# Altium integrated library TI Amplifiers and Linear Operational Amplifier High Speed.IntLib: 1100 symbols (part 42 of 44)
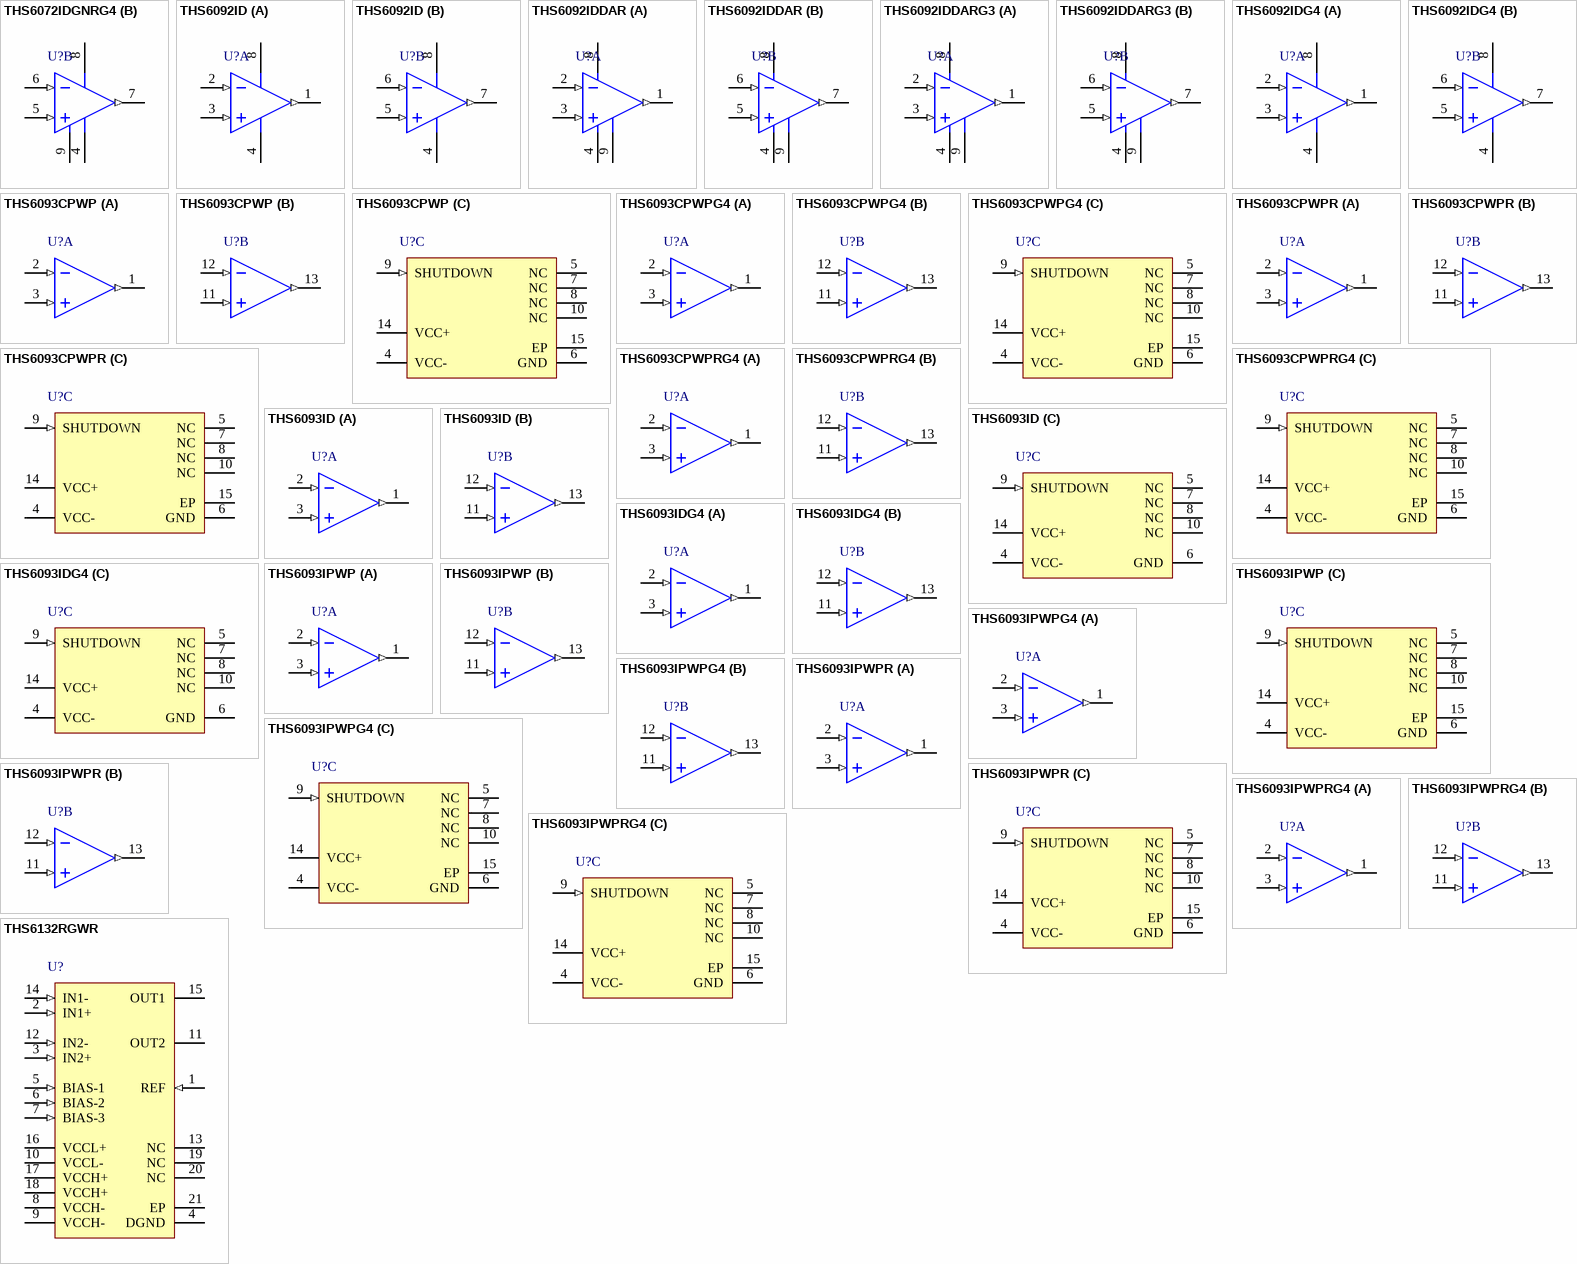
[diagram p92: symbols THS6072IDGNRG4 to THS6132RGWR]

## THS6092IDDARG3
designator U?
275 mA, + 12 V ADSL CPE Line Driver, 5 to 14 V, -40 to 85 degC, 8-pin SOP (DDA8), Green (RoHS & no Sb/Br); Manufacturer: Texas Instruments; PartNumber: THS6092IDDARG3; Acl, min stable gain(V/V): 1; BW @ Acl(MHz): 100; Iib(Max)(nA): 12000; Io(Typ)(mA): 275; Iq per channel(Max)(mA): 10.5; Number of Channels: 2; Slew Rate(Typ)(V/us): 600; Sub Family: High Output Current Amplifier (>=50mA), High Speed Amplifier (>=50MHz); THD (Fc is 1 MHz)(Typ)(dB): -72; Vio(Max)(mV): 20; Vn at Flatband(Typ)(nV/rtHz): 2.1; Vs(Max)(V): 14; Vs(Min)(V): 5; DatasheetVersion: SLOS345C; PackageVersion: 4202561/F, 12/2011; PackageReference: DDA8-3025X2335TP; PackageDescription: 8-Pin PowerPAD(TM) Plastic Small Outline, Body 4.9 x 3.9 mm, Pitch 1.27 mm; Supplier 1: Digi-Key; Supplier Part Number 1: THS6092IDDARG3-ND; Supplier 2: Mouser; Supplier Part Number 2: 595-THS6092IDDARG3; Eco-Plan: Green (RoHS & no Sb/Br); Mounting Technology: Surface Mount; Code_JEDEC: MS-012; ComponentLink1Description: Manufacturer URL; ComponentLink1URL: http://www.ti.com/; ComponentLink2Description: Datasheet; ComponentLink2URL: http://www.ti.com/general/docs/lit/getliterature.tsp?genericPartNumber=THS6092&fileType=pdf; ComponentLink3Description: Package Specification; ComponentLink3URL: http://www.ti.com/litv/pdf/mpds092e
footprint TI-DDA8-3025X2335TP_N (SOP, 8-Leads, Body 4.9x3.9mm, Pitch 1.27mm, Thermal Pad 3.025x2.335mm, IPC Medium Density)
footprint TI-DDA8-3025X2335TP_L (SOP, 8-Leads, Body 4.9x3.9mm, Pitch 1.27mm, Thermal Pad 3.025x2.335mm, IPC High Density)
footprint TI-DDA8-3025X2335TP_M (SOP, 8-Leads, Body 4.9x3.9mm, Pitch 1.27mm, Thermal Pad 3.025x2.335mm, IPC Low Density)
pins on every part: 4 VCC- (power), 8 VCC+ (power), 9 EP
part A pins: 1 OUT D1 (out), 2 IN D1- (in), 3 IN D1+ (in)
part B pins: 5 IN D2+ (in), 6 IN D2- (in), 7 OUT D2 (out)

## THS6092IDG4
designator U?
275 mA, + 12 V ADSL CPE Line Driver, 5 to 14 V, -40 to 85 degC, 8-pin SOIC (D8), Green (RoHS & no Sb/Br); Manufacturer: Texas Instruments; PartNumber: THS6092IDG4; Acl, min stable gain(V/V): 1; BW @ Acl(MHz): 100; Iib(Max)(nA): 12000; Io(Typ)(mA): 275; Iq per channel(Max)(mA): 10.5; Number of Channels: 2; Slew Rate(Typ)(V/us): 600; Sub Family: High Output Current Amplifier (>=50mA), High Speed Amplifier (>=50MHz); THD (Fc is 1 MHz)(Typ)(dB): -72; Vio(Max)(mV): 20; Vn at Flatband(Typ)(nV/rtHz): 2.1; Vs(Max)(V): 14; Vs(Min)(V): 5; DatasheetVersion: SLOS345C; PackageVersion: 4040047-3/M, 06/2011; PackageReference: D8; PackageDescription: 8-Pin Plastic Small Outline, Body 4.9 x 3.9 mm, Pitch 1.27 mm; Supplier 1: Digi-Key; Supplier Part Number 1: THS6092IDG4-ND; Supplier 2: Mouser; Supplier Part Number 2: 595-THS6092IDG4; Eco-Plan: Green (RoHS & no Sb/Br); Mounting Technology: Surface Mount; Code_JEDEC: MS-012; ComponentLink1Description: Manufacturer URL; ComponentLink1URL: http://www.ti.com/; ComponentLink2Description: Datasheet; ComponentLink2URL: http://www.ti.com/general/docs/lit/getliterature.tsp?genericPartNumber=THS6092&fileType=pdf; ComponentLink3Description: Package Specification; ComponentLink3URL: http://www.ti.com/litv/pdf/msoi002j
footprint TI-D8_N (SOIC, 8-Leads, Body 4.9x3.9mm, Pitch 1.27mm, IPC Medium Density)
footprint TI-D8_L (SOIC, 8-Leads, Body 4.9x3.9mm, Pitch 1.27mm, IPC High Density)
footprint TI-D8_M (SOIC, 8-Leads, Body 4.9x3.9mm, Pitch 1.27mm, IPC Low Density)
pins on every part: 4 VCC- (power), 8 VCC+ (power)
part A pins: 1 OUT D1 (out), 2 IN D1- (in), 3 IN D1+ (in)
part B pins: 5 IN D2+ (in), 6 IN D2- (in), 7 OUT D2 (out)

## THS6093CPWP
designator U?
275 mA, + 12 V ADSL CPE Line Driver with Shutdown, 5 to 14 V, 0 to 70 degC, 14-pin SOP (PWP14), Green (RoHS & no Sb/Br); Manufacturer: Texas Instruments; PartNumber: THS6093CPWP; Acl, min stable gain(V/V): 1; BW @ Acl(MHz): 100; Iib(Max)(nA): 12000; Io(Typ)(mA): 275; Iq per channel(Max)(mA): 10.5; Number of Channels: 2; Slew Rate(Typ)(V/us): 800; Sub Family: High Output Current Amplifier (>=50mA), High Speed Amplifier (>=50MHz); THD (Fc is 1 MHz)(Typ)(dB): -77; Vio(Max)(mV): 20; Vn at Flatband(Typ)(nV/rtHz): 2.1; Vs(Max)(V): 14; Vs(Min)(V): 5; DatasheetVersion: SLOS345C; PackageVersion: 4073225-2/I, 05/2011; PackageReference: PWP14-1830X2055TP; PackageDescription: 14-Pin Plastic Small Outline, Body 4.4 x 5 mm, Pitch 0.65 mm; Supplier 1: Digi-Key; Supplier Part Number 1: THS6093CPWP-ND; Supplier 2: Mouser; Supplier Part Number 2: 595-THS6093CPWP; Eco-Plan: Green (RoHS & no Sb/Br); Mounting Technology: Surface Mount; Code_JEDEC: MO-153; ComponentLink1Description: Manufacturer URL; ComponentLink1URL: http://www.ti.com/; ComponentLink2Description: Datasheet; ComponentLink2URL: http://www.ti.com/general/docs/lit/getliterature.tsp?genericPartNumber=THS6093&fileType=pdf; ComponentLink3Description: Package Specification; ComponentLink3URL: http://www.ti.com/litv/pdf/mpds373
footprint TI-PWP14-1830X2055TP_N (SOP, 14-Leads, Body 5x4.4mm, Pitch 0.65mm, Thermal Pad 1.830x2.055mm, IPC Medium Density)
footprint TI-PWP14-1830X2055TP_L (SOP, 14-Leads, Body 5x4.4mm, Pitch 0.65mm, Thermal Pad 1.830x2.055mm, IPC High Density)
footprint TI-PWP14-1830X2055TP_M (SOP, 14-Leads, Body 5x4.4mm, Pitch 0.65mm, Thermal Pad 1.830x2.055mm, IPC Low Density)
part A pins: 1 OUT D1 (out), 2 IN D1- (in), 3 IN D1+ (in)
part B pins: 11 IN D2+ (in), 12 IN D2- (in), 13 OUT D2 (out)
part C pins: 4 VCC- (power), 5 NC, 6 GND (power), 7 NC, 8 NC, 9 SHUTDOWN (in), 10 NC, 14 VCC+ (power), 15 EP

## THS6093CPWPG4
designator U?
275 mA, + 12 V ADSL CPE Line Driver with Shutdown, 5 to 14 V, 0 to 70 degC, 14-pin SOP (PWP14), Green (RoHS & no Sb/Br); Manufacturer: Texas Instruments; PartNumber: THS6093CPWPG4; Acl, min stable gain(V/V): 1; BW @ Acl(MHz): 100; Iib(Max)(nA): 12000; Io(Typ)(mA): 275; Iq per channel(Max)(mA): 10.5; Number of Channels: 2; Slew Rate(Typ)(V/us): 800; Sub Family: High Output Current Amplifier (>=50mA), High Speed Amplifier (>=50MHz); THD (Fc is 1 MHz)(Typ)(dB): -77; Vio(Max)(mV): 20; Vn at Flatband(Typ)(nV/rtHz): 2.1; Vs(Max)(V): 14; Vs(Min)(V): 5; DatasheetVersion: SLOS345C; PackageVersion: 4073225-2/I, 05/2011; PackageReference: PWP14-1830X2055TP; PackageDescription: 14-Pin Plastic Small Outline, Body 4.4 x 5 mm, Pitch 0.65 mm; Supplier 1: Digi-Key; Supplier Part Number 1: THS6093CPWPG4-ND; Supplier 2: Mouser; Supplier Part Number 2: 595-THS6093CPWPG4; Eco-Plan: Green (RoHS & no Sb/Br); Mounting Technology: Surface Mount; Code_JEDEC: MO-153; ComponentLink1Description: Manufacturer URL; ComponentLink1URL: http://www.ti.com/; ComponentLink2Description: Datasheet; ComponentLink2URL: http://www.ti.com/general/docs/lit/getliterature.tsp?genericPartNumber=THS6093&fileType=pdf; ComponentLink3Description: Package Specification; ComponentLink3URL: http://www.ti.com/litv/pdf/mpds373
footprint TI-PWP14-1830X2055TP_N (SOP, 14-Leads, Body 5x4.4mm, Pitch 0.65mm, Thermal Pad 1.830x2.055mm, IPC Medium Density)
footprint TI-PWP14-1830X2055TP_L (SOP, 14-Leads, Body 5x4.4mm, Pitch 0.65mm, Thermal Pad 1.830x2.055mm, IPC High Density)
footprint TI-PWP14-1830X2055TP_M (SOP, 14-Leads, Body 5x4.4mm, Pitch 0.65mm, Thermal Pad 1.830x2.055mm, IPC Low Density)
part A pins: 1 OUT D1 (out), 2 IN D1- (in), 3 IN D1+ (in)
part B pins: 11 IN D2+ (in), 12 IN D2- (in), 13 OUT D2 (out)
part C pins: 4 VCC- (power), 5 NC, 6 GND (power), 7 NC, 8 NC, 9 SHUTDOWN (in), 10 NC, 14 VCC+ (power), 15 EP

## THS6093CPWPR
designator U?
275 mA, + 12 V ADSL CPE Line Driver with Shutdown, 5 to 14 V, 0 to 70 degC, 14-pin SOP (PWP14), Green (RoHS & no Sb/Br); Manufacturer: Texas Instruments; PartNumber: THS6093CPWPR; Acl, min stable gain(V/V): 1; BW @ Acl(MHz): 100; Iib(Max)(nA): 12000; Io(Typ)(mA): 275; Iq per channel(Max)(mA): 10.5; Number of Channels: 2; Slew Rate(Typ)(V/us): 800; Sub Family: High Output Current Amplifier (>=50mA), High Speed Amplifier (>=50MHz); THD (Fc is 1 MHz)(Typ)(dB): -77; Vio(Max)(mV): 20; Vn at Flatband(Typ)(nV/rtHz): 2.1; Vs(Max)(V): 14; Vs(Min)(V): 5; DatasheetVersion: SLOS345C; PackageVersion: 4073225-2/I, 05/2011; PackageReference: PWP14-1830X2055TP; PackageDescription: 14-Pin Plastic Small Outline, Body 4.4 x 5 mm, Pitch 0.65 mm; Supplier 1: Digi-Key; Supplier Part Number 1: THS6093CPWPR-ND; Supplier 2: Mouser; Supplier Part Number 2: 595-THS6093CPWPR; Eco-Plan: Green (RoHS & no Sb/Br); Mounting Technology: Surface Mount; Code_JEDEC: MO-153; ComponentLink1Description: Manufacturer URL; ComponentLink1URL: http://www.ti.com/; ComponentLink2Description: Datasheet; ComponentLink2URL: http://www.ti.com/general/docs/lit/getliterature.tsp?genericPartNumber=THS6093&fileType=pdf; ComponentLink3Description: Package Specification; ComponentLink3URL: http://www.ti.com/litv/pdf/mpds373
footprint TI-PWP14-1830X2055TP_N (SOP, 14-Leads, Body 5x4.4mm, Pitch 0.65mm, Thermal Pad 1.830x2.055mm, IPC Medium Density)
footprint TI-PWP14-1830X2055TP_L (SOP, 14-Leads, Body 5x4.4mm, Pitch 0.65mm, Thermal Pad 1.830x2.055mm, IPC High Density)
footprint TI-PWP14-1830X2055TP_M (SOP, 14-Leads, Body 5x4.4mm, Pitch 0.65mm, Thermal Pad 1.830x2.055mm, IPC Low Density)
part A pins: 1 OUT D1 (out), 2 IN D1- (in), 3 IN D1+ (in)
part B pins: 11 IN D2+ (in), 12 IN D2- (in), 13 OUT D2 (out)
part C pins: 4 VCC- (power), 5 NC, 6 GND (power), 7 NC, 8 NC, 9 SHUTDOWN (in), 10 NC, 14 VCC+ (power), 15 EP

## THS6093CPWPRG4
designator U?
275 mA, + 12 V ADSL CPE Line Driver with Shutdown, 5 to 14 V, 0 to 70 degC, 14-pin SOP (PWP14), Green (RoHS & no Sb/Br); Manufacturer: Texas Instruments; PartNumber: THS6093CPWPRG4; Acl, min stable gain(V/V): 1; BW @ Acl(MHz): 100; Iib(Max)(nA): 12000; Io(Typ)(mA): 275; Iq per channel(Max)(mA): 10.5; Number of Channels: 2; Slew Rate(Typ)(V/us): 800; Sub Family: High Output Current Amplifier (>=50mA), High Speed Amplifier (>=50MHz); THD (Fc is 1 MHz)(Typ)(dB): -77; Vio(Max)(mV): 20; Vn at Flatband(Typ)(nV/rtHz): 2.1; Vs(Max)(V): 14; Vs(Min)(V): 5; DatasheetVersion: SLOS345C; PackageVersion: 4073225-2/I, 05/2011; PackageReference: PWP14-1830X2055TP; PackageDescription: 14-Pin Plastic Small Outline, Body 4.4 x 5 mm, Pitch 0.65 mm; Supplier 1: Digi-Key; Supplier Part Number 1: THS6093CPWPRG4-ND; Supplier 2: Mouser; Supplier Part Number 2: 595-THS6093CPWPRG4; Eco-Plan: Green (RoHS & no Sb/Br); Mounting Technology: Surface Mount; Code_JEDEC: MO-153; ComponentLink1Description: Manufacturer URL; ComponentLink1URL: http://www.ti.com/; ComponentLink2Description: Datasheet; ComponentLink2URL: http://www.ti.com/general/docs/lit/getliterature.tsp?genericPartNumber=THS6093&fileType=pdf; ComponentLink3Description: Package Specification; ComponentLink3URL: http://www.ti.com/litv/pdf/mpds373
footprint TI-PWP14-1830X2055TP_N (SOP, 14-Leads, Body 5x4.4mm, Pitch 0.65mm, Thermal Pad 1.830x2.055mm, IPC Medium Density)
footprint TI-PWP14-1830X2055TP_L (SOP, 14-Leads, Body 5x4.4mm, Pitch 0.65mm, Thermal Pad 1.830x2.055mm, IPC High Density)
footprint TI-PWP14-1830X2055TP_M (SOP, 14-Leads, Body 5x4.4mm, Pitch 0.65mm, Thermal Pad 1.830x2.055mm, IPC Low Density)
part A pins: 1 OUT D1 (out), 2 IN D1- (in), 3 IN D1+ (in)
part B pins: 11 IN D2+ (in), 12 IN D2- (in), 13 OUT D2 (out)
part C pins: 4 VCC- (power), 5 NC, 6 GND (power), 7 NC, 8 NC, 9 SHUTDOWN (in), 10 NC, 14 VCC+ (power), 15 EP

## THS6093ID
designator U?
275 mA, + 12 V ADSL CPE Line Driver with Shutdown, 5 to 14 V, -40 to 85 degC, 14-pin SOIC (D14), Green (RoHS & no Sb/Br); Manufacturer: Texas Instruments; PartNumber: THS6093ID; Acl, min stable gain(V/V): 1; BW @ Acl(MHz): 100; Iib(Max)(nA): 12000; Io(Typ)(mA): 275; Iq per channel(Max)(mA): 10.5; Number of Channels: 2; Slew Rate(Typ)(V/us): 800; Sub Family: High Output Current Amplifier (>=50mA), High Speed Amplifier (>=50MHz); THD (Fc is 1 MHz)(Typ)(dB): -77; Vio(Max)(mV): 20; Vn at Flatband(Typ)(nV/rtHz): 2.1; Vs(Max)(V): 14; Vs(Min)(V): 5; DatasheetVersion: SLOS345C; PackageVersion: 4040047-5/M, 06/2011; PackageReference: D14; PackageDescription: 14-Pin Plastic Small Outline, Body 8.65 x 3.9 mm, Pitch 1.27 mm; Supplier 1: Digi-Key; Supplier Part Number 1: 296-11986-5-ND; Supplier 2: Farnell; Supplier Part Number 2: 1755417; Supplier 3: Mouser; Supplier Part Number 3: 595-THS6093ID; Eco-Plan: Green (RoHS & no Sb/Br); Mounting Technology: Surface Mount; Code_JEDEC: MS-012; ComponentLink1Description: Manufacturer URL; ComponentLink1URL: http://www.ti.com/; ComponentLink2Description: Datasheet; ComponentLink2URL: http://www.ti.com/general/docs/lit/getliterature.tsp?genericPartNumber=THS6093&fileType=pdf; ComponentLink3Description: Package Specification; ComponentLink3URL: http://www.ti.com/lit/ml/mpds177g/mpds177g.pdf
footprint TI-D14_N (SOIC, 14-Leads, Body 8.65x3.9mm, Pitch 1.27mm, IPC Medium Density)
footprint TI-D14_L (SOIC, 14-Leads, Body 8.65x3.9mm, Pitch 1.27mm, IPC High Density)
footprint TI-D14_M (SOIC, 14-Leads, Body 8.65x3.9mm, Pitch 1.27mm, IPC Low Density)
part A pins: 1 OUT D1 (out), 2 IN D1- (in), 3 IN D1+ (in)
part B pins: 11 IN D2+ (in), 12 IN D2- (in), 13 OUT D2 (out)
part C pins: 4 VCC- (power), 5 NC, 6 GND (power), 7 NC, 8 NC, 9 SHUTDOWN (in), 10 NC, 14 VCC+ (power)

## THS6093IDG4
designator U?
275 mA, + 12 V ADSL CPE Line Driver with Shutdown, 5 to 14 V, -40 to 85 degC, 14-pin SOIC (D14), Green (RoHS & no Sb/Br); Manufacturer: Texas Instruments; PartNumber: THS6093IDG4; Acl, min stable gain(V/V): 1; BW @ Acl(MHz): 100; Iib(Max)(nA): 12000; Io(Typ)(mA): 275; Iq per channel(Max)(mA): 10.5; Number of Channels: 2; Slew Rate(Typ)(V/us): 800; Sub Family: High Output Current Amplifier (>=50mA), High Speed Amplifier (>=50MHz); THD (Fc is 1 MHz)(Typ)(dB): -77; Vio(Max)(mV): 20; Vn at Flatband(Typ)(nV/rtHz): 2.1; Vs(Max)(V): 14; Vs(Min)(V): 5; DatasheetVersion: SLOS345C; PackageVersion: 4040047-5/M, 06/2011; PackageReference: D14; PackageDescription: 14-Pin Plastic Small Outline, Body 8.65 x 3.9 mm, Pitch 1.27 mm; Supplier 1: Digi-Key; Supplier Part Number 1: THS6093IDG4-ND; Supplier 2: Mouser; Supplier Part Number 2: 595-THS6093IDG4; Eco-Plan: Green (RoHS & no Sb/Br); Mounting Technology: Surface Mount; Code_JEDEC: MS-012; ComponentLink1Description: Manufacturer URL; ComponentLink1URL: http://www.ti.com/; ComponentLink2Description: Datasheet; ComponentLink2URL: http://www.ti.com/general/docs/lit/getliterature.tsp?genericPartNumber=THS6093&fileType=pdf; ComponentLink3Description: Package Specification; ComponentLink3URL: http://www.ti.com/lit/ml/mpds177g/mpds177g.pdf
footprint TI-D14_N (SOIC, 14-Leads, Body 8.65x3.9mm, Pitch 1.27mm, IPC Medium Density)
footprint TI-D14_L (SOIC, 14-Leads, Body 8.65x3.9mm, Pitch 1.27mm, IPC High Density)
footprint TI-D14_M (SOIC, 14-Leads, Body 8.65x3.9mm, Pitch 1.27mm, IPC Low Density)
part A pins: 1 OUT D1 (out), 2 IN D1- (in), 3 IN D1+ (in)
part B pins: 11 IN D2+ (in), 12 IN D2- (in), 13 OUT D2 (out)
part C pins: 4 VCC- (power), 5 NC, 6 GND (power), 7 NC, 8 NC, 9 SHUTDOWN (in), 10 NC, 14 VCC+ (power)

## THS6093IPWP
designator U?
275 mA, + 12 V ADSL CPE Line Driver with Shutdown, 5 to 14 V, -40 to 85 degC, 14-pin SOP (PWP14), Green (RoHS & no Sb/Br); Manufacturer: Texas Instruments; PartNumber: THS6093IPWP; Acl, min stable gain(V/V): 1; BW @ Acl(MHz): 100; Iib(Max)(nA): 12000; Io(Typ)(mA): 275; Iq per channel(Max)(mA): 10.5; Number of Channels: 2; Slew Rate(Typ)(V/us): 800; Sub Family: High Output Current Amplifier (>=50mA), High Speed Amplifier (>=50MHz); THD (Fc is 1 MHz)(Typ)(dB): -77; Vio(Max)(mV): 20; Vn at Flatband(Typ)(nV/rtHz): 2.1; Vs(Max)(V): 14; Vs(Min)(V): 5; DatasheetVersion: SLOS345C; PackageVersion: 4073225-2/I, 05/2011; PackageReference: PWP14-1830X2055TP; PackageDescription: 14-Pin Plastic Small Outline, Body 4.4 x 5 mm, Pitch 0.65 mm; Supplier 1: Digi-Key; Supplier Part Number 1: 296-12320-5-ND; Supplier 2: Mouser; Supplier Part Number 2: 595-THS6093IPWP; Eco-Plan: Green (RoHS & no Sb/Br); Mounting Technology: Surface Mount; Code_JEDEC: MO-153; ComponentLink1Description: Manufacturer URL; ComponentLink1URL: http://www.ti.com/; ComponentLink2Description: Datasheet; ComponentLink2URL: http://www.ti.com/general/docs/lit/getliterature.tsp?genericPartNumber=THS6093&fileType=pdf; ComponentLink3Description: Package Specification; ComponentLink3URL: http://www.ti.com/litv/pdf/mpds373
footprint TI-PWP14-1830X2055TP_N (SOP, 14-Leads, Body 5x4.4mm, Pitch 0.65mm, Thermal Pad 1.830x2.055mm, IPC Medium Density)
footprint TI-PWP14-1830X2055TP_L (SOP, 14-Leads, Body 5x4.4mm, Pitch 0.65mm, Thermal Pad 1.830x2.055mm, IPC High Density)
footprint TI-PWP14-1830X2055TP_M (SOP, 14-Leads, Body 5x4.4mm, Pitch 0.65mm, Thermal Pad 1.830x2.055mm, IPC Low Density)
part A pins: 1 OUT D1 (out), 2 IN D1- (in), 3 IN D1+ (in)
part B pins: 11 IN D2+ (in), 12 IN D2- (in), 13 OUT D2 (out)
part C pins: 4 VCC- (power), 5 NC, 6 GND (power), 7 NC, 8 NC, 9 SHUTDOWN (in), 10 NC, 14 VCC+ (power), 15 EP

## THS6093IPWPG4
designator U?
275 mA, + 12 V ADSL CPE Line Driver with Shutdown, 5 to 14 V, -40 to 85 degC, 14-pin SOP (PWP14), Green (RoHS & no Sb/Br); Manufacturer: Texas Instruments; PartNumber: THS6093IPWPG4; Acl, min stable gain(V/V): 1; BW @ Acl(MHz): 100; Iib(Max)(nA): 12000; Io(Typ)(mA): 275; Iq per channel(Max)(mA): 10.5; Number of Channels: 2; Slew Rate(Typ)(V/us): 800; Sub Family: High Output Current Amplifier (>=50mA), High Speed Amplifier (>=50MHz); THD (Fc is 1 MHz)(Typ)(dB): -77; Vio(Max)(mV): 20; Vn at Flatband(Typ)(nV/rtHz): 2.1; Vs(Max)(V): 14; Vs(Min)(V): 5; DatasheetVersion: SLOS345C; PackageVersion: 4073225-2/I, 05/2011; PackageReference: PWP14-1830X2055TP; PackageDescription: 14-Pin Plastic Small Outline, Body 4.4 x 5 mm, Pitch 0.65 mm; Supplier 1: Digi-Key; Supplier Part Number 1: THS6093IPWPG4-ND; Supplier 2: Mouser; Supplier Part Number 2: 595-THS6093IPWPG4; Eco-Plan: Green (RoHS & no Sb/Br); Mounting Technology: Surface Mount; Code_JEDEC: MO-153; ComponentLink1Description: Manufacturer URL; ComponentLink1URL: http://www.ti.com/; ComponentLink2Description: Datasheet; ComponentLink2URL: http://www.ti.com/general/docs/lit/getliterature.tsp?genericPartNumber=THS6093&fileType=pdf; ComponentLink3Description: Package Specification; ComponentLink3URL: http://www.ti.com/litv/pdf/mpds373
footprint TI-PWP14-1830X2055TP_N (SOP, 14-Leads, Body 5x4.4mm, Pitch 0.65mm, Thermal Pad 1.830x2.055mm, IPC Medium Density)
footprint TI-PWP14-1830X2055TP_L (SOP, 14-Leads, Body 5x4.4mm, Pitch 0.65mm, Thermal Pad 1.830x2.055mm, IPC High Density)
footprint TI-PWP14-1830X2055TP_M (SOP, 14-Leads, Body 5x4.4mm, Pitch 0.65mm, Thermal Pad 1.830x2.055mm, IPC Low Density)
part A pins: 1 OUT D1 (out), 2 IN D1- (in), 3 IN D1+ (in)
part B pins: 11 IN D2+ (in), 12 IN D2- (in), 13 OUT D2 (out)
part C pins: 4 VCC- (power), 5 NC, 6 GND (power), 7 NC, 8 NC, 9 SHUTDOWN (in), 10 NC, 14 VCC+ (power), 15 EP

## THS6093IPWPR
designator U?
275 mA, + 12 V ADSL CPE Line Driver with Shutdown, 5 to 14 V, -40 to 85 degC, 14-pin SOP (PWP14), Green (RoHS & no Sb/Br); Manufacturer: Texas Instruments; PartNumber: THS6093IPWPR; Acl, min stable gain(V/V): 1; BW @ Acl(MHz): 100; Iib(Max)(nA): 12000; Io(Typ)(mA): 275; Iq per channel(Max)(mA): 10.5; Number of Channels: 2; Slew Rate(Typ)(V/us): 800; Sub Family: High Output Current Amplifier (>=50mA), High Speed Amplifier (>=50MHz); THD (Fc is 1 MHz)(Typ)(dB): -77; Vio(Max)(mV): 20; Vn at Flatband(Typ)(nV/rtHz): 2.1; Vs(Max)(V): 14; Vs(Min)(V): 5; DatasheetVersion: SLOS345C; PackageVersion: 4073225-2/I, 05/2011; PackageReference: PWP14-1830X2055TP; PackageDescription: 14-Pin Plastic Small Outline, Body 4.4 x 5 mm, Pitch 0.65 mm; Supplier 1: Digi-Key; Supplier Part Number 1: THS6093IPWPR-ND; Supplier 2: Mouser; Supplier Part Number 2: 595-THS6093IPWPR; Eco-Plan: Green (RoHS & no Sb/Br); Mounting Technology: Surface Mount; Code_JEDEC: MO-153; ComponentLink1Description: Manufacturer URL; ComponentLink1URL: http://www.ti.com/; ComponentLink2Description: Datasheet; ComponentLink2URL: http://www.ti.com/general/docs/lit/getliterature.tsp?genericPartNumber=THS6093&fileType=pdf; ComponentLink3Description: Package Specification; ComponentLink3URL: http://www.ti.com/litv/pdf/mpds373
footprint TI-PWP14-1830X2055TP_N (SOP, 14-Leads, Body 5x4.4mm, Pitch 0.65mm, Thermal Pad 1.830x2.055mm, IPC Medium Density)
footprint TI-PWP14-1830X2055TP_L (SOP, 14-Leads, Body 5x4.4mm, Pitch 0.65mm, Thermal Pad 1.830x2.055mm, IPC High Density)
footprint TI-PWP14-1830X2055TP_M (SOP, 14-Leads, Body 5x4.4mm, Pitch 0.65mm, Thermal Pad 1.830x2.055mm, IPC Low Density)
part A pins: 1 OUT D1 (out), 2 IN D1- (in), 3 IN D1+ (in)
part B pins: 11 IN D2+ (in), 12 IN D2- (in), 13 OUT D2 (out)
part C pins: 4 VCC- (power), 5 NC, 6 GND (power), 7 NC, 8 NC, 9 SHUTDOWN (in), 10 NC, 14 VCC+ (power), 15 EP

## THS6093IPWPRG4
designator U?
275 mA, + 12 V ADSL CPE Line Driver with Shutdown, 5 to 14 V, -40 to 85 degC, 14-pin SOP (PWP14), Green (RoHS & no Sb/Br); Manufacturer: Texas Instruments; PartNumber: THS6093IPWPRG4; Acl, min stable gain(V/V): 1; BW @ Acl(MHz): 100; Iib(Max)(nA): 12000; Io(Typ)(mA): 275; Iq per channel(Max)(mA): 10.5; Number of Channels: 2; Slew Rate(Typ)(V/us): 600; Sub Family: High Output Current Amplifier (>=50mA), High Speed Amplifier (>=50MHz); THD (Fc is 1 MHz)(Typ)(dB): -72; Vio(Max)(mV): 21; Vn at Flatband(Typ)(nV/rtHz): 2.1; Vs(Max)(V): 14; Vs(Min)(V): 5; DatasheetVersion: SLOS345C; PackageVersion: 4073225-2/I, 05/2011; PackageReference: PWP14-1830X2055TP; PackageDescription: 14-Pin Plastic Small Outline, Body 4.4 x 5 mm, Pitch 0.65 mm; Supplier 1: Digi-Key; Supplier Part Number 1: THS6093IPWPRG4-ND; Supplier 2: Mouser; Supplier Part Number 2: 595-THS6093IPWPRG4; Eco-Plan: Green (RoHS & no Sb/Br); Mounting Technology: Surface Mount; Code_JEDEC: MO-153; ComponentLink1Description: Manufacturer URL; ComponentLink1URL: http://www.ti.com/; ComponentLink2Description: Datasheet; ComponentLink2URL: http://www.ti.com/general/docs/lit/getliterature.tsp?genericPartNumber=THS6093&fileType=pdf; ComponentLink3Description: Package Specification; ComponentLink3URL: http://www.ti.com/litv/pdf/mpds373
footprint TI-PWP14-1830X2055TP_N (SOP, 14-Leads, Body 5x4.4mm, Pitch 0.65mm, Thermal Pad 1.830x2.055mm, IPC Medium Density)
footprint TI-PWP14-1830X2055TP_L (SOP, 14-Leads, Body 5x4.4mm, Pitch 0.65mm, Thermal Pad 1.830x2.055mm, IPC High Density)
footprint TI-PWP14-1830X2055TP_M (SOP, 14-Leads, Body 5x4.4mm, Pitch 0.65mm, Thermal Pad 1.830x2.055mm, IPC Low Density)
part A pins: 1 OUT D1 (out), 2 IN D1- (in), 3 IN D1+ (in)
part B pins: 11 IN D2+ (in), 12 IN D2- (in), 13 OUT D2 (out)
part C pins: 4 VCC- (power), 5 NC, 6 GND (power), 7 NC, 8 NC, 9 SHUTDOWN (in), 10 NC, 14 VCC+ (power), 15 EP

## THS6132RGWR
designator U?
High Efficiency Class-G ADSL Line Driver, 6.6 to 30 V, -40 to 85 degC, 20-pin QFN (RGW20), Green (RoHS & no Sb/Br); Manufacturer: Texas Instruments; PartNumber: THS6132RGWR; 2nd Harmonic(dBc): 84; 3rd Harmonic(dBc): 92; @ MHz: 1; BW @ Acl(MHz): 80; Iib(Max)(nA): 20000; Io(Typ)(mA): 500; Iq per channel(Max)(mA): 8.1; Number of Channels: 2; Slew Rate(Typ)(V/us): 300; Sub Family: High Output Current Amplifier (>=50mA), High Speed Amplifier (>=50MHz), High Supply Voltage Amplifier (>=30V); THD (Fc is 1 MHz)(Typ)(dB): -92; Vio(Max)(mV): 15; Vn at Flatband(Typ)(nV/rtHz): 3.5; Vs(Max)(V): 30; Vs(Min)(V): 6.6; DatasheetVersion: SLLS543A; PackageVersion: 4204100/C, 07/2011; PackageReference: RGW20-3150X3150TP; PackageDescription: 20-Pin Plastic Quad Flat No-Lead, 5 x 5 mm Body, 0.65 mm Pitch, 3.15 x 3.15 mm Exposed Pad; Supplier 1: Digi-Key; Supplier Part Number 1: THS6132RGWR-ND; Supplier 2: Mouser; Supplier Part Number 2: 595-THS6132RGWR; Acl, min stable gain(V/V): 1; Eco-Plan: Green (RoHS & no Sb/Br); Mounting Technology: Surface Mount; Code_JEDEC: MO-220; ComponentLink1Description: Manufacturer URL; ComponentLink1URL: http://www.ti.com/; ComponentLink2Description: Datasheet; ComponentLink2URL: http://www.ti.com/general/docs/lit/getliterature.tsp?genericPartNumber=THS6132&fileType=pdf; ComponentLink3Description: Package Specification; ComponentLink3URL: http://www.ti.com/litv/pdf/mpqf122b
footprint TI-RGW20-3150X3150TP_V (QFN, 20-Leads, Body 5x5mm, Pitch 0.65mm, Thermal Pad 3.15x3.15mm)
pins: 1 REF (in), 2 IN1+ (in), 3 IN2+ (in), 4 DGND (power), 5 BIAS-1 (in), 6 BIAS-2 (in), 7 BIAS-3 (in), 8 VCCH- (power), 9 VCCH- (power), 10 VCCL- (power), 11 OUT2 (hiz), 12 IN2- (in), 13 NC, 14 IN1- (in), 15 OUT1 (hiz), 16 VCCL+ (power), 17 VCCH+ (power), 18 VCCH+ (power), 19 NC, 20 NC, 21 EP (power)

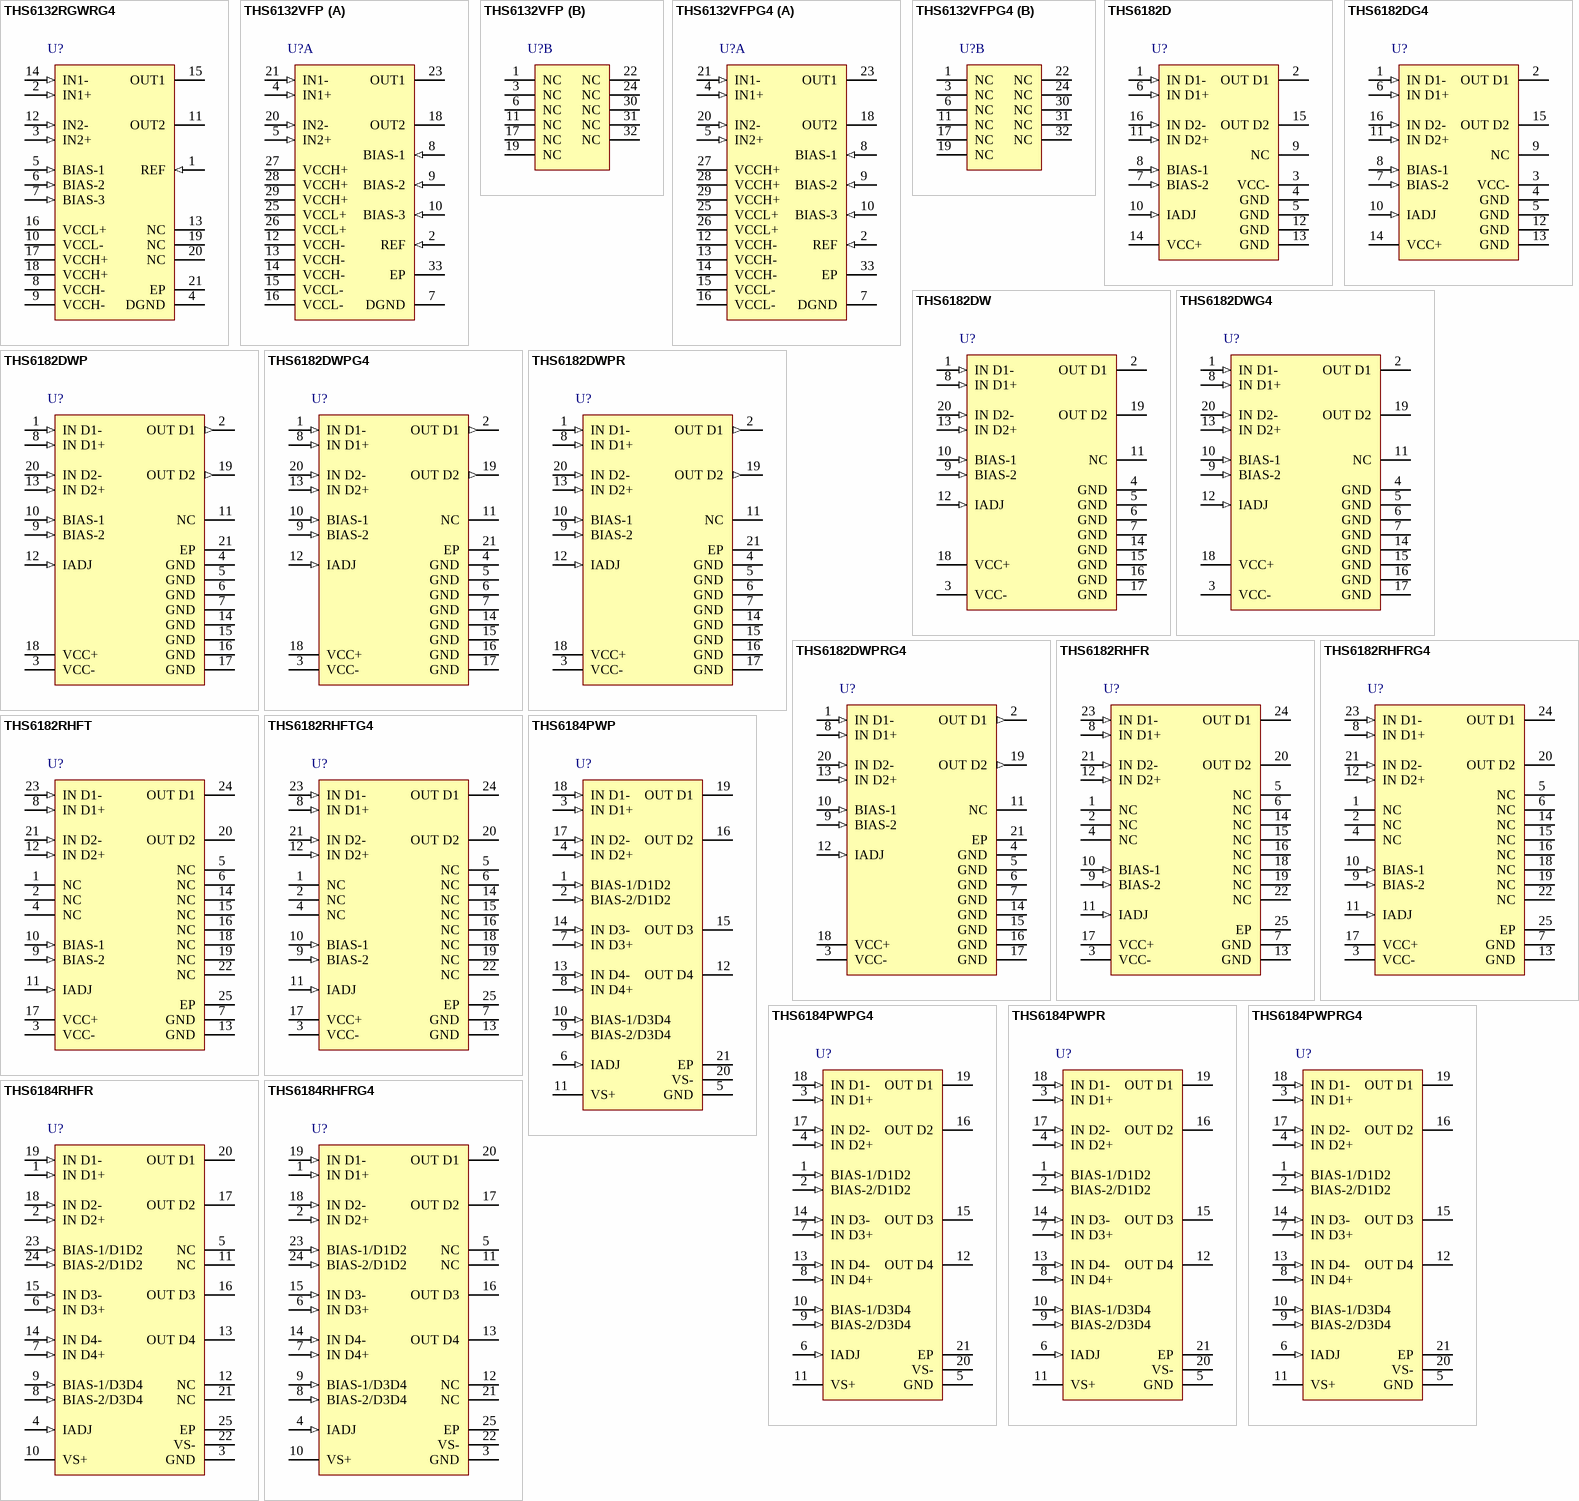
[diagram p50: symbols THS6132RGWRG4 to THS6184RHFRG4]

## THS6132RGWRG4
designator U?
High Efficiency Class-G ADSL Line Driver, 6.6 to 30 V, -40 to 85 degC, 20-pin QFN (RGW20), Green (RoHS & no Sb/Br); Manufacturer: Texas Instruments; PartNumber: THS6132RGWRG4; 2nd Harmonic(dBc): 84; 3rd Harmonic(dBc): 92; @ MHz: 1; BW @ Acl(MHz): 80; Iib(Max)(nA): 20000; Io(Typ)(mA): 500; Iq per channel(Max)(mA): 8.1; Number of Channels: 2; Slew Rate(Typ)(V/us): 300; Sub Family: High Output Current Amplifier (>=50mA), High Speed Amplifier (>=50MHz), High Supply Voltage Amplifier (>=30V); THD (Fc is 1 MHz)(Typ)(dB): -92; Vio(Max)(mV): 15; Vn at Flatband(Typ)(nV/rtHz): 3.5; Vs(Max)(V): 30; Vs(Min)(V): 6.6; DatasheetVersion: SLLS543A; PackageVersion: 4204100/C, 07/2011; PackageReference: RGW20-3150X3150TP; PackageDescription: 20-Pin Plastic Quad Flat No-Lead, 5 x 5 mm Body, 0.65 mm Pitch, 3.15 x 3.15 mm Exposed Pad; Supplier 1: Digi-Key; Supplier Part Number 1: THS6132RGWRG4-ND; Supplier 2: Newark; Supplier Part Number 2: 99K4332; Supplier 3: Mouser; Supplier Part Number 3: 595-THS6132RGWRG4; Acl, min stable gain(V/V): 1; Eco-Plan: Green (RoHS & no Sb/Br); Mounting Technology: Surface Mount; Code_JEDEC: MO-220; ComponentLink1Description: Manufacturer URL; ComponentLink1URL: http://www.ti.com/; ComponentLink2Description: Datasheet; ComponentLink2URL: http://www.ti.com/general/docs/lit/getliterature.tsp?genericPartNumber=THS6132&fileType=pdf; ComponentLink3Description: Package Specification; ComponentLink3URL: http://www.ti.com/litv/pdf/mpqf122b
footprint TI-RGW20-3150X3150TP_V (QFN, 20-Leads, Body 5x5mm, Pitch 0.65mm, Thermal Pad 3.15x3.15mm)
pins: 1 REF (in), 2 IN1+ (in), 3 IN2+ (in), 4 DGND (power), 5 BIAS-1 (in), 6 BIAS-2 (in), 7 BIAS-3 (in), 8 VCCH- (power), 9 VCCH- (power), 10 VCCL- (power), 11 OUT2 (hiz), 12 IN2- (in), 13 NC, 14 IN1- (in), 15 OUT1 (hiz), 16 VCCL+ (power), 17 VCCH+ (power), 18 VCCH+ (power), 19 NC, 20 NC, 21 EP (power)

## THS6132VFP
designator U?
High Efficiency Class-G ADSL Line Driver, 6.6 to 30 V, -40 to 85 degC, 32-pin QFP (VFP32), Green (RoHS & no Sb/Br); Manufacturer: Texas Instruments; PartNumber: THS6132VFP; 2nd Harmonic(dBc): 84; 3rd Harmonic(dBc): 92; @ MHz: 1; BW @ Acl(MHz): 80; Iib(Max)(nA): 20000; Io(Typ)(mA): 500; Iq per channel(Max)(mA): 8.1; Number of Channels: 2; Slew Rate(Typ)(V/us): 300; Sub Family: High Output Current Amplifier (>=50mA), High Speed Amplifier (>=50MHz), High Supply Voltage Amplifier (>=30V); THD (Fc is 1 MHz)(Typ)(dB): -92; Vio(Max)(mV): 15; Vn at Flatband(Typ)(nV/rtHz): 3.5; Vs(Max)(V): 30; Vs(Min)(V): 6.6; DatasheetVersion: SLLS543A; PackageVersion: 4200791/C, 04/2012; PackageReference: VFP32-3505X3505TP; PackageDescription: 32-Pin PowerPAD(TM) Plastic Quad Flatpack, Body 7 x 7 mm, Pitch 0.8 mm; Supplier 1: Digi-Key; Supplier Part Number 1: 296-13744-5-ND; Supplier 2: Mouser; Supplier Part Number 2: 595-THS6132VFP; Acl, min stable gain(V/V): 1; Eco-Plan: Green (RoHS & no Sb/Br); Mounting Technology: Surface Mount; Code_JEDEC: MS-026; ComponentLink1Description: Manufacturer URL; ComponentLink1URL: http://www.ti.com/; ComponentLink2Description: Datasheet; ComponentLink2URL: http://www.ti.com/general/docs/lit/getliterature.tsp?genericPartNumber=THS6132&fileType=pdf; ComponentLink3Description: Package Specification; ComponentLink3URL: http://www.ti.com/lit/ml/mpqf098b/mpqf098b.pdf
footprint TI-VFP32-3505X3505TP_N (QFP, 32-Leads, Body 7x7mm, Pitch 0.8mm, Thermal Pad 3.505x3.505mm, IPC Medium Density)
footprint TI-VFP32-3505X3505TP_L (QFP, 32-Leads, Body 7x7mm, Pitch 0.8mm, Thermal Pad 3.505x3.505mm, IPC High Density)
footprint TI-VFP32-3505X3505TP_M (QFP, 32-Leads, Body 7x7mm, Pitch 0.8mm, Thermal Pad 3.505x3.505mm, IPC Low Density)
part A pins: 2 REF (in), 4 IN1+ (in), 5 IN2+ (in), 7 DGND (power), 8 BIAS-1 (in), 9 BIAS-2 (in), 10 BIAS-3 (in), 12 VCCH- (power), 13 VCCH- (power), 14 VCCH- (power), 15 VCCL- (power), 16 VCCL- (power), 18 OUT2 (hiz), 20 IN2- (in), 21 IN1- (in), 23 OUT1 (hiz), 25 VCCL+ (power), 26 VCCL+ (power), 27 VCCH+ (power), 28 VCCH+ (power), 29 VCCH+ (power), 33 EP
part B pins: 1 NC, 3 NC, 6 NC, 11 NC, 17 NC, 19 NC, 22 NC, 24 NC, 30 NC, 31 NC, 32 NC

## THS6132VFPG4
designator U?
High Efficiency Class-G ADSL Line Driver, 6.6 to 30 V, -40 to 85 degC, 32-pin QFP (VFP32); Manufacturer: Texas Instruments; PartNumber: THS6132VFPG4; 2nd Harmonic(dBc): 84; 3rd Harmonic(dBc): 92; @ MHz: 1; BW @ Acl(MHz): 80; Eco-Plan: Green (RoHS & no Sb/Br); Iib(Max)(nA): 20000; Io(Typ)(mA): 500; Iq per channel(Max)(mA): 8.1; Number of Channels: 2; Slew Rate(Typ)(V/us): 300; Sub Family: High Output Current Amplifier (>=50mA), High Speed Amplifier (>=50MHz), High Supply Voltage Amplifier (>=30V); THD (Fc is 1 MHz)(Typ)(dB): -92; Vio(Max)(mV): 15; Vn at Flatband(Typ)(nV/rtHz): 3.5; Vs(Max)(V): 32; Vs(Min)(V): 6.6; DatasheetVersion: SLLS543A; PackageVersion: 4200791/C, 04/2012; PackageReference: VFP32-3505X3505TP; PackageDescription: 32-Pin PowerPAD(TM) Plastic Quad Flatpack, Body 7 x 7 mm, Pitch 0.8 mm; Supplier 1: Mouser; Supplier Part Number 1: N/A; Acl, min stable gain(V/V): 1; Mounting Technology: Surface Mount; Code_JEDEC: MS-026; ComponentLink1Description: Manufacturer URL; ComponentLink1URL: http://www.ti.com/; ComponentLink2Description: Datasheet; ComponentLink2URL: http://www.ti.com/general/docs/lit/getliterature.tsp?genericPartNumber=THS6132&fileType=pdf; ComponentLink3Description: Package Specification; ComponentLink3URL: http://www.ti.com/lit/ml/mpqf098b/mpqf098b.pdf
footprint TI-VFP32-3505X3505TP_N (QFP, 32-Leads, Body 7x7mm, Pitch 0.8mm, Thermal Pad 3.505x3.505mm, IPC Medium Density)
footprint TI-VFP32-3505X3505TP_L (QFP, 32-Leads, Body 7x7mm, Pitch 0.8mm, Thermal Pad 3.505x3.505mm, IPC High Density)
footprint TI-VFP32-3505X3505TP_M (QFP, 32-Leads, Body 7x7mm, Pitch 0.8mm, Thermal Pad 3.505x3.505mm, IPC Low Density)
part A pins: 2 REF (in), 4 IN1+ (in), 5 IN2+ (in), 7 DGND (power), 8 BIAS-1 (in), 9 BIAS-2 (in), 10 BIAS-3 (in), 12 VCCH- (power), 13 VCCH- (power), 14 VCCH- (power), 15 VCCL- (power), 16 VCCL- (power), 18 OUT2 (hiz), 20 IN2- (in), 21 IN1- (in), 23 OUT1 (hiz), 25 VCCL+ (power), 26 VCCL+ (power), 27 VCCH+ (power), 28 VCCH+ (power), 29 VCCH+ (power), 33 EP
part B pins: 1 NC, 3 NC, 6 NC, 11 NC, 17 NC, 19 NC, 22 NC, 24 NC, 30 NC, 31 NC, 32 NC

## THS6182D
designator U?
Low Power Dissipation ADSL Line Driver, 10 to 30 V, -40 to 85 degC, 16-pin SOIC (D16), Green (RoHS & no Sb/Br); Manufacturer: Texas Instruments; PartNumber: THS6182D; 2nd Harmonic(dBc): 88; 3rd Harmonic(dBc): 107; @ MHz: 1; BW @ Acl(MHz): 100; Iib(Max)(nA): 20000; Io(Typ)(mA): 600; Iq per channel(Max)(mA): 12.5; Number of Channels: 2; Slew Rate(Typ)(V/us): 450; Sub Family: High Output Current Amplifier (>=50mA), High Speed Amplifier (>=50MHz), High Supply Voltage Amplifier (>=30V); THD (Fc is 1 MHz)(Typ)(dB): -88; Vio(Max)(mV): 20; Vn at Flatband(Typ)(nV/rtHz): 3.2; Vs(Max)(V): 30; Vs(Min)(V): 10; DatasheetVersion: SLLS544H; PackageVersion: 4040047-6/M, 06/2011; PackageReference: D16; PackageDescription: 16-Pin Plastic Small Outline, Body 9.9 x 3.9 mm, Pitch 1.27 mm; Supplier 1: Digi-Key; Supplier Part Number 1: 296-14977-5-ND; Supplier 2: Newark; Supplier Part Number 2: 61H5463; Supplier 3: Mouser; Supplier Part Number 3: 595-THS6182D; Acl, min stable gain(V/V): 1; Eco-Plan: Green (RoHS & no Sb/Br); Mounting Technology: Surface Mount; Code_JEDEC: MS-012; ComponentLink1Description: Manufacturer URL; ComponentLink1URL: http://www.ti.com/; ComponentLink2Description: Datasheet; ComponentLink2URL: http://www.ti.com/general/docs/lit/getliterature.tsp?genericPartNumber=THS6182&fileType=pdf; ComponentLink3Description: Package Specification; ComponentLink3URL: http://www.ti.com/litv/pdf/mpds178g
footprint TI-D16_N (SOIC, 16-Leads, Body 9.9x3.9mm, Pitch 1.27mm, IPC Medium Density)
footprint TI-D16_L (SOIC, 16-Leads, Body 9.9x3.9mm, Pitch 1.27mm, IPC High Density)
footprint TI-D16_M (SOIC, 16-Leads, Body 9.9x3.9mm, Pitch 1.27mm, IPC Low Density)
pins: 1 IN D1- (in), 2 OUT D1 (hiz), 3 VCC- (power), 4 GND (power), 5 GND (power), 6 IN D1+ (in), 7 BIAS-2 (in), 8 BIAS-1 (in), 9 NC, 10 IADJ (in), 11 IN D2+ (in), 12 GND (power), 13 GND (power), 14 VCC+ (power), 15 OUT D2 (hiz), 16 IN D2- (in)

## THS6182DG4
designator U?
Low Power Dissipation ADSL Line Driver, 10 to 30 V, -40 to 85 degC, 16-pin SOIC (D16), Green (RoHS & no Sb/Br); Manufacturer: Texas Instruments; PartNumber: THS6182DG4; 2nd Harmonic(dBc): 88; 3rd Harmonic(dBc): 107; @ MHz: 1; BW @ Acl(MHz): 100; Iib(Max)(nA): 20000; Io(Typ)(mA): 600; Iq per channel(Max)(mA): 12.5; Number of Channels: 2; Slew Rate(Typ)(V/us): 450; Sub Family: High Output Current Amplifier (>=50mA), High Speed Amplifier (>=50MHz), High Supply Voltage Amplifier (>=30V); THD (Fc is 1 MHz)(Typ)(dB): -88; Vio(Max)(mV): 20; Vn at Flatband(Typ)(nV/rtHz): 3.2; Vs(Max)(V): 30; Vs(Min)(V): 10; DatasheetVersion: SLLS544H; PackageVersion: 4040047-6/M, 06/2011; PackageReference: D16; PackageDescription: 16-Pin Plastic Small Outline, Body 9.9 x 3.9 mm, Pitch 1.27 mm; Supplier 1: Digi-Key; Supplier Part Number 1: THS6182DG4-ND; Supplier 2: Mouser; Supplier Part Number 2: 595-THS6182DG4; Acl, min stable gain(V/V): 1; Eco-Plan: Green (RoHS & no Sb/Br); Mounting Technology: Surface Mount; Code_JEDEC: MS-012; ComponentLink1Description: Manufacturer URL; ComponentLink1URL: http://www.ti.com/; ComponentLink2Description: Datasheet; ComponentLink2URL: http://www.ti.com/general/docs/lit/getliterature.tsp?genericPartNumber=THS6182&fileType=pdf; ComponentLink3Description: Package Specification; ComponentLink3URL: http://www.ti.com/litv/pdf/mpds178g
footprint TI-D16_N (SOIC, 16-Leads, Body 9.9x3.9mm, Pitch 1.27mm, IPC Medium Density)
footprint TI-D16_L (SOIC, 16-Leads, Body 9.9x3.9mm, Pitch 1.27mm, IPC High Density)
footprint TI-D16_M (SOIC, 16-Leads, Body 9.9x3.9mm, Pitch 1.27mm, IPC Low Density)
pins: 1 IN D1- (in), 2 OUT D1 (hiz), 3 VCC- (power), 4 GND (power), 5 GND (power), 6 IN D1+ (in), 7 BIAS-2 (in), 8 BIAS-1 (in), 9 NC, 10 IADJ (in), 11 IN D2+ (in), 12 GND (power), 13 GND (power), 14 VCC+ (power), 15 OUT D2 (hiz), 16 IN D2- (in)

## THS6182DW
designator U?
Low Power Dissipation ADSL Line Driver, 10 to 30 V, -40 to 85 degC, 20-pin SOIC (DW20), Green (RoHS & no Sb/Br); Manufacturer: Texas Instruments; PartNumber: THS6182DW; 2nd Harmonic(dBc): 88; 3rd Harmonic(dBc): 107; @ MHz: 1; BW @ Acl(MHz): 100; Iib(Max)(nA): 20000; Io(Typ)(mA): 600; Iq per channel(Max)(mA): 12.5; Number of Channels: 2; Slew Rate(Typ)(V/us): 450; Sub Family: High Output Current Amplifier (>=50mA), High Speed Amplifier (>=50MHz), High Supply Voltage Amplifier (>=30V); THD (Fc is 1 MHz)(Typ)(dB): -88; Vio(Max)(mV): 20; Vn at Flatband(Typ)(nV/rtHz): 3.2; Vs(Max)(V): 30; Vs(Min)(V): 10; DatasheetVersion: SLLS544H; PackageVersion: 4040000-4/G, 01/2011; PackageReference: DW20; PackageDescription: 20-Pin Plastic Small Outline, Body 12.8 x 7.5 mm, Pitch 1.27 mm; Supplier 1: Digi-Key; Supplier Part Number 1: 296-14978-5-ND; Supplier 2: Newark; Supplier Part Number 2: 61H5465; Supplier 3: Mouser; Supplier Part Number 3: 595-THS6182DW; Acl, min stable gain(V/V): 1; Eco-Plan: Green (RoHS & no Sb/Br); Mounting Technology: Surface Mount; Code_JEDEC: MO-013; ComponentLink1Description: Manufacturer URL; ComponentLink1URL: http://www.ti.com/; ComponentLink2Description: Datasheet; ComponentLink2URL: http://www.ti.com/general/docs/lit/getliterature.tsp?genericPartNumber=THS6182&fileType=pdf; ComponentLink3Description: Package Specification; ComponentLink3URL: http://www.ti.com/lit/ml/mpds173a/mpds173a.pdf
footprint TI-DW20_N (SOIC, 20-Leads, Body 12.8x7.5mm, Pitch 1.27mm, IPC Medium Density)
footprint TI-DW20_L (SOIC, 20-Leads, Body 12.8x7.5mm, Pitch 1.27mm, IPC High Density)
footprint TI-DW20_M (SOIC, 20-Leads, Body 12.8x7.5mm, Pitch 1.27mm, IPC Low Density)
pins: 1 IN D1- (in), 2 OUT D1 (hiz), 3 VCC- (power), 4 GND (power), 5 GND (power), 6 GND (power), 7 GND (power), 8 IN D1+ (in), 9 BIAS-2 (in), 10 BIAS-1 (in), 11 NC, 12 IADJ (in), 13 IN D2+ (in), 14 GND (power), 15 GND (power), 16 GND (power), 17 GND (power), 18 VCC+ (power), 19 OUT D2 (hiz), 20 IN D2- (in)

## THS6182DWG4
designator U?
Low Power Dissipation ADSL Line Driver, 10 to 30 V, -40 to 85 degC, 20-pin SOIC (DW20), Green (RoHS & no Sb/Br); Manufacturer: Texas Instruments; PartNumber: THS6182DWG4; 2nd Harmonic(dBc): 88; 3rd Harmonic(dBc): 107; @ MHz: 1; BW @ Acl(MHz): 100; Iib(Max)(nA): 20000; Io(Typ)(mA): 600; Iq per channel(Max)(mA): 12.5; Number of Channels: 2; Slew Rate(Typ)(V/us): 450; Sub Family: High Output Current Amplifier (>=50mA), High Speed Amplifier (>=50MHz), High Supply Voltage Amplifier (>=30V); THD (Fc is 1 MHz)(Typ)(dB): -88; Vio(Max)(mV): 20; Vn at Flatband(Typ)(nV/rtHz): 3.2; Vs(Max)(V): 30; Vs(Min)(V): 10; DatasheetVersion: SLLS544H; PackageVersion: 4040000-4/G, 01/2011; PackageReference: DW20; PackageDescription: 20-Pin Plastic Small Outline, Body 12.8 x 7.5 mm, Pitch 1.27 mm; Supplier 1: Digi-Key; Supplier Part Number 1: THS6182DWG4-ND; Supplier 2: Mouser; Supplier Part Number 2: 595-THS6182DWG4; Acl, min stable gain(V/V): 1; Eco-Plan: Green (RoHS & no Sb/Br); Mounting Technology: Surface Mount; Code_JEDEC: MO-013; ComponentLink1Description: Manufacturer URL; ComponentLink1URL: http://www.ti.com/; ComponentLink2Description: Datasheet; ComponentLink2URL: http://www.ti.com/general/docs/lit/getliterature.tsp?genericPartNumber=THS6182&fileType=pdf; ComponentLink3Description: Package Specification; ComponentLink3URL: http://www.ti.com/lit/ml/mpds173a/mpds173a.pdf
footprint TI-DW20_N (SOIC, 20-Leads, Body 12.8x7.5mm, Pitch 1.27mm, IPC Medium Density)
footprint TI-DW20_L (SOIC, 20-Leads, Body 12.8x7.5mm, Pitch 1.27mm, IPC High Density)
footprint TI-DW20_M (SOIC, 20-Leads, Body 12.8x7.5mm, Pitch 1.27mm, IPC Low Density)
pins: 1 IN D1- (in), 2 OUT D1 (hiz), 3 VCC- (power), 4 GND (power), 5 GND (power), 6 GND (power), 7 GND (power), 8 IN D1+ (in), 9 BIAS-2 (in), 10 BIAS-1 (in), 11 NC, 12 IADJ (in), 13 IN D2+ (in), 14 GND (power), 15 GND (power), 16 GND (power), 17 GND (power), 18 VCC+ (power), 19 OUT D2 (hiz), 20 IN D2- (in)

## THS6182DWP
designator U?
Low Power Dissipation ADSL Line Driver, 10 to 30 V, -40 to 85 degC, 20-pin SOP (DWP20), Green (RoHS & no Sb/Br); Manufacturer: Texas Instruments; PartNumber: THS6182DWP; 2nd Harmonic(dBc): 88; 3rd Harmonic(dBc): 107; @ MHz: 1; BW @ Acl(MHz): 100; Iib(Max)(nA): 20000; Io(Typ)(mA): 600; Iq per channel(Max)(mA): 12.5; Number of Channels: 2; Slew Rate(Typ)(V/us): 450; Sub Family: High Output Current Amplifier (>=50mA), High Speed Amplifier (>=50MHz), High Supply Voltage Amplifier (>=30V); THD (Fc is 1 MHz)(Typ)(dB): -88; Vio(Max)(mV): 20; Vn at Flatband(Typ)(nV/rtHz): 3.2; Vs(Max)(V): 30; Vs(Min)(V): 10; DatasheetVersion: SLLS544H; PackageVersion: 4147575/C, 02/2005; PackageReference: DWP20-3470X2350TP; PackageDescription: 20-Pin PowerPAD(TM) Plastic Small-Outline Package, Body 12.825 x 7.52 mm, Pitch 1.27 mm; Supplier 1: Digi-Key; Supplier Part Number 1: 296-34232-5-ND; Supplier 2: Newark; Supplier Part Number 2: 73J8325; Supplier 3: Mouser; Supplier Part Number 3: 595-THS6182DWP; Acl, min stable gain(V/V): 1; Eco-Plan: Green (RoHS & no Sb/Br); Mounting Technology: Surface Mount; ComponentLink1Description: Manufacturer URL; ComponentLink1URL: http://www.ti.com/; ComponentLink2Description: Datasheet; ComponentLink2URL: http://www.ti.com/general/docs/lit/getliterature.tsp?genericPartNumber=THS6182&fileType=pdf; ComponentLink3Description: Package Specification; ComponentLink3URL: http://www.ti.com/lit/ml/mpds032b/mpds032b.pdf
footprint TI-DWP20-3470X2350TP_N (SOP, 20-Leads, Body 12.825x7.52mm, Pitch 1.27mm, Thermal Pad 3.47x2.35mm, IPC Medium Density)
footprint TI-DWP20-3470X2350TP_L (SOP, 20-Leads, Body 12.825x7.52mm, Pitch 1.27mm, Thermal Pad 3.47x2.35mm, IPC High Density)
footprint TI-DWP20-3470X2350TP_M (SOP, 20-Leads, Body 12.825x7.52mm, Pitch 1.27mm, Thermal Pad 3.47x2.35mm, IPC Low Density)
pins: 1 IN D1- (in), 2 OUT D1 (out), 3 VCC- (power), 4 GND (power), 5 GND (power), 6 GND (power), 7 GND (power), 8 IN D1+ (in), 9 BIAS-2 (in), 10 BIAS-1 (in), 11 NC, 12 IADJ (in), 13 IN D2+ (in), 14 GND (power), 15 GND (power), 16 GND (power), 17 GND (power), 18 VCC+ (power), 19 OUT D2 (out), 20 IN D2- (in), 21 EP (power)

## THS6182DWPG4
designator U?
Low Power Dissipation ADSL Line Driver, 10 to 30 V, -40 to 85 degC, 20-pin SOP (DWP20), Green (RoHS & no Sb/Br); Manufacturer: Texas Instruments; PartNumber: THS6182DWPG4; 2nd Harmonic(dBc): 88; 3rd Harmonic(dBc): 107; @ MHz: 1; BW @ Acl(MHz): 100; Iib(Max)(nA): 20000; Io(Typ)(mA): 600; Iq per channel(Max)(mA): 12.5; Number of Channels: 2; Slew Rate(Typ)(V/us): 450; Sub Family: High Output Current Amplifier (>=50mA), High Speed Amplifier (>=50MHz), High Supply Voltage Amplifier (>=30V); THD (Fc is 1 MHz)(Typ)(dB): -88; Vio(Max)(mV): 20; Vn at Flatband(Typ)(nV/rtHz): 3.2; Vs(Max)(V): 30; Vs(Min)(V): 10; DatasheetVersion: SLLS544H; PackageVersion: 4147575/C, 02/2005; PackageReference: DWP20-3470X2350TP; PackageDescription: 20-Pin PowerPAD(TM) Plastic Small-Outline Package, Body 12.825 x 7.52 mm, Pitch 1.27 mm; Supplier 1: Digi-Key; Supplier Part Number 1: THS6182DWPG4-ND; Supplier 2: Mouser; Supplier Part Number 2: 595-THS6182DWPG4; Acl, min stable gain(V/V): 1; Eco-Plan: Green (RoHS & no Sb/Br); Mounting Technology: Surface Mount; ComponentLink1Description: Manufacturer URL; ComponentLink1URL: http://www.ti.com/; ComponentLink2Description: Datasheet; ComponentLink2URL: http://www.ti.com/general/docs/lit/getliterature.tsp?genericPartNumber=THS6182&fileType=pdf; ComponentLink3Description: Package Specification; ComponentLink3URL: http://www.ti.com/lit/ml/mpds032b/mpds032b.pdf
footprint TI-DWP20-3470X2350TP_N (SOP, 20-Leads, Body 12.825x7.52mm, Pitch 1.27mm, Thermal Pad 3.47x2.35mm, IPC Medium Density)
footprint TI-DWP20-3470X2350TP_L (SOP, 20-Leads, Body 12.825x7.52mm, Pitch 1.27mm, Thermal Pad 3.47x2.35mm, IPC High Density)
footprint TI-DWP20-3470X2350TP_M (SOP, 20-Leads, Body 12.825x7.52mm, Pitch 1.27mm, Thermal Pad 3.47x2.35mm, IPC Low Density)
pins: 1 IN D1- (in), 2 OUT D1 (out), 3 VCC- (power), 4 GND (power), 5 GND (power), 6 GND (power), 7 GND (power), 8 IN D1+ (in), 9 BIAS-2 (in), 10 BIAS-1 (in), 11 NC, 12 IADJ (in), 13 IN D2+ (in), 14 GND (power), 15 GND (power), 16 GND (power), 17 GND (power), 18 VCC+ (power), 19 OUT D2 (out), 20 IN D2- (in), 21 EP (power)

## THS6182DWPR
designator U?
Low Power Dissipation ADSL Line Driver, 10 to 30 V, -40 to 85 degC, 20-pin SOP (DWP20), Green (RoHS & no Sb/Br); Manufacturer: Texas Instruments; PartNumber: THS6182DWPR; 2nd Harmonic(dBc): 88; 3rd Harmonic(dBc): 107; @ MHz: 1; BW @ Acl(MHz): 100; Iib(Max)(nA): 20000; Io(Typ)(mA): 600; Iq per channel(Max)(mA): 12.5; Number of Channels: 2; Slew Rate(Typ)(V/us): 450; Sub Family: High Output Current Amplifier (>=50mA), High Speed Amplifier (>=50MHz), High Supply Voltage Amplifier (>=30V); THD (Fc is 1 MHz)(Typ)(dB): -88; Vio(Max)(mV): 20; Vn at Flatband(Typ)(nV/rtHz): 3.2; Vs(Max)(V): 30; Vs(Min)(V): 10; DatasheetVersion: SLLS544H; PackageVersion: 4147575/C, 02/2005; PackageReference: DWP20-3470X2350TP; PackageDescription: 20-Pin PowerPAD(TM) Plastic Small-Outline Package, Body 12.825 x 7.52 mm, Pitch 1.27 mm; Supplier 1: Digi-Key; Supplier Part Number 1: THS6182DWPR-ND; Supplier 2: Newark; Supplier Part Number 2: 73J8326; Supplier 3: Mouser; Supplier Part Number 3: 595-THS6182DWPR; Acl, min stable gain(V/V): 1; Eco-Plan: Green (RoHS & no Sb/Br); Mounting Technology: Surface Mount; ComponentLink1Description: Manufacturer URL; ComponentLink1URL: http://www.ti.com/; ComponentLink2Description: Datasheet; ComponentLink2URL: http://www.ti.com/general/docs/lit/getliterature.tsp?genericPartNumber=THS6182&fileType=pdf; ComponentLink3Description: Package Specification; ComponentLink3URL: http://www.ti.com/lit/ml/mpds032b/mpds032b.pdf
footprint TI-DWP20-3470X2350TP_N (SOP, 20-Leads, Body 12.825x7.52mm, Pitch 1.27mm, Thermal Pad 3.47x2.35mm, IPC Medium Density)
footprint TI-DWP20-3470X2350TP_L (SOP, 20-Leads, Body 12.825x7.52mm, Pitch 1.27mm, Thermal Pad 3.47x2.35mm, IPC High Density)
footprint TI-DWP20-3470X2350TP_M (SOP, 20-Leads, Body 12.825x7.52mm, Pitch 1.27mm, Thermal Pad 3.47x2.35mm, IPC Low Density)
pins: 1 IN D1- (in), 2 OUT D1 (out), 3 VCC- (power), 4 GND (power), 5 GND (power), 6 GND (power), 7 GND (power), 8 IN D1+ (in), 9 BIAS-2 (in), 10 BIAS-1 (in), 11 NC, 12 IADJ (in), 13 IN D2+ (in), 14 GND (power), 15 GND (power), 16 GND (power), 17 GND (power), 18 VCC+ (power), 19 OUT D2 (out), 20 IN D2- (in), 21 EP (power)

## THS6182DWPRG4
designator U?
Low Power Dissipation ADSL Line Driver, 10 to 30 V, -40 to 85 degC, 20-pin SOP (DWP20), Green (RoHS & no Sb/Br); Manufacturer: Texas Instruments; PartNumber: THS6182DWPRG4; 2nd Harmonic(dBc): 88; 3rd Harmonic(dBc): 107; @ MHz: 1; BW @ Acl(MHz): 100; Iib(Max)(nA): 20000; Io(Typ)(mA): 600; Iq per channel(Max)(mA): 12.5; Number of Channels: 2; Slew Rate(Typ)(V/us): 450; Sub Family: High Output Current Amplifier (>=50mA), High Speed Amplifier (>=50MHz), High Supply Voltage Amplifier (>=30V); THD (Fc is 1 MHz)(Typ)(dB): -88; Vio(Max)(mV): 20; Vn at Flatband(Typ)(nV/rtHz): 3.2; Vs(Max)(V): 30; Vs(Min)(V): 10; DatasheetVersion: SLLS544H; PackageVersion: 4147575/C, 02/2005; PackageReference: DWP20-3470X2350TP; PackageDescription: 20-Pin PowerPAD(TM) Plastic Small-Outline Package, Body 12.825 x 7.52 mm, Pitch 1.27 mm; Supplier 1: Digi-Key; Supplier Part Number 1: THS6182DWPRG4-ND; Supplier 2: Mouser; Supplier Part Number 2: 595-THS6182DWPRG4; Acl, min stable gain(V/V): 1; Eco-Plan: Green (RoHS & no Sb/Br); Mounting Technology: Surface Mount; ComponentLink1Description: Manufacturer URL; ComponentLink1URL: http://www.ti.com/; ComponentLink2Description: Datasheet; ComponentLink2URL: http://www.ti.com/general/docs/lit/getliterature.tsp?genericPartNumber=THS6182&fileType=pdf; ComponentLink3Description: Package Specification; ComponentLink3URL: http://www.ti.com/lit/ml/mpds032b/mpds032b.pdf
footprint TI-DWP20-3470X2350TP_N (SOP, 20-Leads, Body 12.825x7.52mm, Pitch 1.27mm, Thermal Pad 3.47x2.35mm, IPC Medium Density)
footprint TI-DWP20-3470X2350TP_L (SOP, 20-Leads, Body 12.825x7.52mm, Pitch 1.27mm, Thermal Pad 3.47x2.35mm, IPC High Density)
footprint TI-DWP20-3470X2350TP_M (SOP, 20-Leads, Body 12.825x7.52mm, Pitch 1.27mm, Thermal Pad 3.47x2.35mm, IPC Low Density)
pins: 1 IN D1- (in), 2 OUT D1 (out), 3 VCC- (power), 4 GND (power), 5 GND (power), 6 GND (power), 7 GND (power), 8 IN D1+ (in), 9 BIAS-2 (in), 10 BIAS-1 (in), 11 NC, 12 IADJ (in), 13 IN D2+ (in), 14 GND (power), 15 GND (power), 16 GND (power), 17 GND (power), 18 VCC+ (power), 19 OUT D2 (out), 20 IN D2- (in), 21 EP (power)

## THS6182RHFR
designator U?
Low Power Dissipation ADSL Line Driver, 10 to 30 V, -40 to 85 degC, 24-pin QFN (RHF24), Green (RoHS & no Sb/Br); Manufacturer: Texas Instruments; PartNumber: THS6182RHFR; 2nd Harmonic(dBc): 88; 3rd Harmonic(dBc): 107; @ MHz: 1; BW @ Acl(MHz): 100; Iib(Max)(nA): 20000; Io(Typ)(mA): 600; Iq per channel(Max)(mA): 12.5; Number of Channels: 2; Slew Rate(Typ)(V/us): 450; Sub Family: High Output Current Amplifier (>=50mA), High Speed Amplifier (>=50MHz), High Supply Voltage Amplifier (>=30V); THD (Fc is 1 MHz)(Typ)(dB): -88; Vio(Max)(mV): 20; Vn at Flatband(Typ)(nV/rtHz): 3.2; Vs(Max)(V): 30; Vs(Min)(V): 10; DatasheetVersion: SLLS544H; PackageVersion: 4204845-2/H, 06/2011; PackageReference: RHF24-3650X2650TP; PackageDescription: 24-Pin Plastic Flat Pack, Body 4 x 5 mm, Pitch 0.5 mm; Supplier 1: Digi-Key; Supplier Part Number 1: 296-15338-2-ND; Supplier 2: Digi-Key; Supplier Part Number 2: 296-15338-1-ND; Supplier 3: Digi-Key; Supplier Part Number 3: 296-15338-6-ND; Supplier 4: Newark; Supplier Part Number 4: 82H5816; Supplier 5: Mouser; Supplier Part Number 5: 595-THS6182RHFR; Acl, min stable gain(V/V): 1; Eco-Plan: Green (RoHS & no Sb/Br); Mounting Technology: Surface Mount; Code_JEDEC: MO-220; ComponentLink1Description: Manufacturer URL; ComponentLink1URL: http://www.ti.com/; ComponentLink2Description: Datasheet; ComponentLink2URL: http://www.ti.com/general/docs/lit/getliterature.tsp?genericPartNumber=THS6182&fileType=pdf; ComponentLink3Description: Package Specification; ComponentLink3URL: http://www.ti.com/litv/pdf/mpqf137g
footprint TI-RHF24-3650X2650TP_V (QFN, 24-Leads, Body 5x4mm, Pitch 0.5mm, Thermal Pad 3.65x2.65mm)
pins: 1 NC, 2 NC, 3 VCC- (power), 4 NC, 5 NC, 6 NC, 7 GND (power), 8 IN D1+ (in), 9 BIAS-2 (in), 10 BIAS-1 (in), 11 IADJ (in), 12 IN D2+ (in), 13 GND (power), 14 NC, 15 NC, 16 NC, 17 VCC+ (power), 18 NC, 19 NC, 20 OUT D2 (hiz), 21 IN D2- (in), 22 NC, 23 IN D1- (in), 24 OUT D1 (hiz), 25 EP (power)